# Altium schematic symbol library Avionics_lib.SchLib: 6 symbols
Pins are listed as number, name and electrical type; pins without a type are passive.

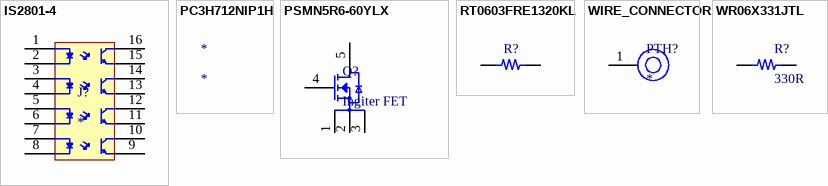
[diagram p0: symbols IS2801-4 to WR06X331JTL]

## IS2801-4
designator J?
Optocoupler DC-IN 4-CH Transistor DC-OUT 16-Pin T/R; Manufacturer: Isocom; Manufacturer Part Number: IS2801-4; Number of Channels: 4; Max Output Voltage: 80V; Output Current per Channel: 50mA; Forward Voltage: 1.2V; Collector Emitter Voltage (VCEO): 400mV; Supplier 1: Digi-Key; Supplier Part Number 1: IS2801-4CT-ND; RoHS: Yes; Category: Optocouplers; Stock 1: 23249; Pricing 1: 1=1.63000, 10=1.03000, 100=0.76220, 500=0.70040, 1000=0.57680 (USD); Mount: Surface Mount; Case/Package: SOIC; Number of Pins: 16; Min Operating Temperature: -55°C; Max Operating Temperature: 110°C; Packaging: Tape and Reel; Lead Free: Lead Free; RoHS Compliant: Yes; ComponentLink1URL: https://datasheet.ciiva.com/16495/is2801-4smt-r-16495642.pdf?src-supplier=Future+Electronics; ComponentLink1Description: https://datasheet.ciiva.com/16495/is2801-4smt-r-16495642.pdf?src-supplier=Future+Electronics; ComponentLink2URL: https://datasheet.ciiva.com/29301/156969-da-01-en-optokoppler-is-2801-4-29301144.pdf?src-supplier=Conrad; ComponentLink2Description: https://datasheet.ciiva.com/29301/156969-da-01-en-optokoppler-is-2801-4-29301144.pdf?src-supplier=Conrad
footprint SOP127P680X220-16N (SOP, 16-Leads, Body 10.28x4.40mm, Pitch 1.27mm, IPC Medium Density)
pins: 1, 2, 3, 4, 5, 6, 7, 8, 9, 10, 11, 12, 13, 14, 15, 16

## PC3H712NIP1H
designator *
Photocoupler - Optoisolator Transistor SMD; Manufacturer: Socle Technology; Manufacturer Part Number: PC3H712NIP1H; Supplier 1: Digi-Key; Supplier Part Number 1: 1855-1008-1-ND; RoHS: No; Category: Optocouplers; Stock 1: 64406; Pricing 1: 1=0.91000, 10=0.59200, 100=0.38770, 1000=0.30606 (USD)

## PSMN5R6-60YLX
designator Q?, comment Ingiter FET
PSMN5R6-60YL - N-channel 60 V, 5.6 mO logic level MOSFET in LFPAK56; Manufacturer: Nexperia; Manufacturer Part Number: PSMN5R6-60YLX; Supplier 1: Mouser; Supplier Part Number 1: 771-PSMN5R6-60YLX; RoHS: Yes; Category: MOSFETs; Stock 1: 26943; Pricing 1: 1=1.17000, 10=1.05000, 50=1.05000, 100=0.82100, 1000=0.54200, 10000=0.45300 (USD); RoHS Compliant: Yes
footprint PSMN5R6-60YLX
pins: 1, 2, 3, 4, 5

## RT0603FRE1320KL
designator R?, comment 20k, 1/10W  (value not drawn)
Res Thin Film 0603 20K Ohm 1% 1/10W ±50ppm/°C Molded SMD Paper T/R; Manufacturer: Yageo; Manufacturer Part Number: RT0603FRE1320KL; Voltage Rating: 75V; Resistance: 20kR; Power Rating: 100mW; Supplier 1: Digi-Key; Supplier Part Number 1: 13-RT0603FRE1320KLCT-ND; Category: Chip SMD Resistors; Stock 1: 133800; Pricing 1: 1=0.10000, 10=0.05900, 100=0.02390, 1000=0.01071, 2500=0.00930, 5000=0.00768 (USD); Case/Package: 0603; Case Code (Metric): 1608; Case Code (Imperial): 0603; Min Operating Temperature: -55°C; Max Operating Temperature: 125°C; Tolerance: 1%; Packaging: Tape and Reel; Termination: SMD/SMT; Temperature Coefficient: 50ppm/°C; Series: RT; RoHS Compliant: Yes; ComponentLink1URL: http://www.mouser.com/ds/2/447/yageodocoutput-1125656.pdf?src-supplier=Mouser; ComponentLink1Description: http://www.mouser.com/ds/2/447/yageodocoutput-1125656.pdf?src-supplier=Mouser; ComponentLink2URL: https://datasheet.octopart.com/RT0603FRE1320KL-Yageo-datasheet-86813807.pdf; ComponentLink2Description: https://datasheet.octopart.com/RT0603FRE1320KL-Yageo-datasheet-86813807.pdf; ComponentLink3URL: https://datasheet.octopart.com/RT0603FRE1320KL-Yageo-datasheet-96443642.pdf?src-supplier=Upverter; ComponentLink3Description: https://datasheet.octopart.com/RT0603FRE1320KL-Yageo-datasheet-96443642.pdf?src-supplier=Upverter
footprint RT0603FRE1320KL (20 kOhms ±1% 0.1W, 1/10W Chip Resistor 0603 (1608 Metric) Thin Film)
pins: 1, 2

## WIRE_CONNECTOR
designator PTH?
footprint Wire Mount
pins: 1

## WR06X331JTL
designator R?, comment 330R
Res Thick Film 0603 330 Ohm 5% 0.1W(1/10W) ±100ppm/C SMD T/R; Manufacturer: Walsin Technologies; Manufacturer Part Number: WR06X331JTL; Temperature Coefficient: 100ppm/°C; Power Rating: 100mW; Voltage Rating (DC): 75V; Supplier 1: Digi-Key; Supplier Part Number 1: 1292-WR06X331JTLCT-ND; RoHS: Yes; Category: Uncategorized; Stock 1: 116752; Pricing 1: 1=0.10000, 10=0.01000, 100=0.00330, 1000=0.00147, 2500=0.00128 (USD); Case/Package: 0603; Contact Material: Tin; Min Operating Temperature: -55°C; Max Operating Temperature: 155°C; Tolerance: 5%; Resistance: 330R; Packaging: Tape and Reel; Working Voltage: 75V; Number of Terminations: 2; Lead Free: Lead Free; RoHS Compliant: Yes; ComponentLink1URL: http://www.farnell.com/datasheets/1960319.pdf?src-supplier=Farnell; ComponentLink1Description: http://www.farnell.com/datasheets/1960319.pdf?src-supplier=Farnell
footprint WR06X331 (330 Ohms ±5% 0.1W, 1/10W Chip Resistor 0603 (1608 Metric) Thick Film)
pins: 1, 2